# Altium schematic symbol library 53261-0471.SchLib: 1 symbol
Pins are listed as number, name and electrical type; pins without a type are passive.

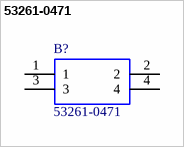
[diagram p0: symbol 53261-0471]

## 53261-0471
designator B?
4 way SMT r/a header Molex PICOBLADE Series, Series Number 53261, 1.25mm Pitch 4 Way 1 Row Shrouded Right Angle PCB Header, Surface Mount; Geometry.Height: mm; Supplier_Name: RS; RS Part Number: 5427113P; Manufacturer_Name: Molex; Manufacturer_Part_Number: 53261-0471; Allied_Number: *; Other Part Number: *; Datasheet Link: http://www.molex.com/webdocs/datasheets/pdf/en-us//0532610471_PCB_HEADERS.pdf; 3D Package: *
footprint 53261-0471
pins: 1, 2, 3, 4